# Altium schematic symbol library ESDALC6V1-5M6.SchLib: 1 symbol
Pins are listed as number, name and electrical type; pins without a type are passive.

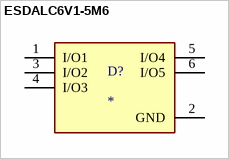
[diagram p0: symbol ESDALC6V1-5M6]

## ESDALC6V1-5M6
designator D?
MF: {'manufacturer': u'STMicroelectronics'}; MP: ESDALC6V1-5M6; Package: None; Price: None; Value: *; Availability: Unavailable
footprint TVS_ESDALC6V1-5M6
footprint TVS_ESDALC6V1-5M6
pins: 1 I/O1, 2 GND (power), 3 I/O2, 4 I/O3, 5 I/O4, 6 I/O5